# Altium integrated library Passive_comp.IntLib: 10 symbols
Pins are listed as number, name and electrical type; pins without a type are passive.

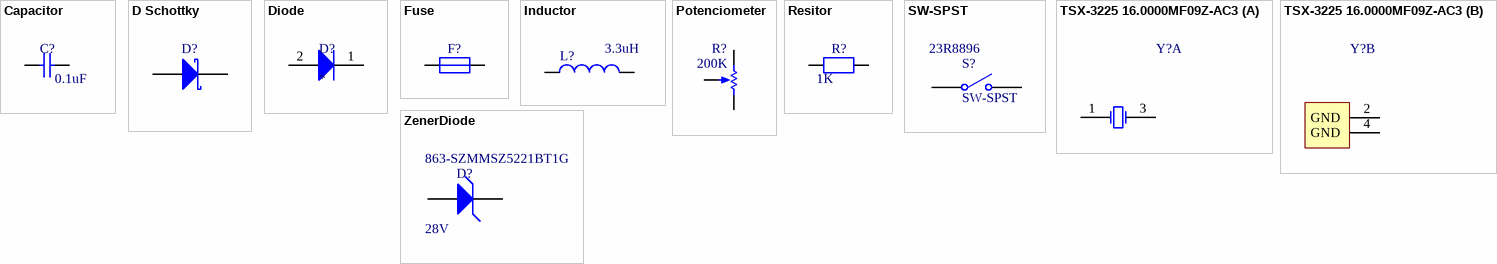
[diagram p0: symbols Capacitor to ZenerDiode]

## Capacitor
designator C?  value 0.1uF  (hidden comment: *)
Max_V: 25V
footprint 0805_CAP (Chip Capacitor, 2-Leads, Body 2,00x1,25mm, IPC Low Density)
footprint 1206_CAP (Chip Capacitor, 2-Leads, Body 3,20x1,60mm, IPC Low Density)
footprint 0603_CAP (Chip Capacitor, 2-Leads, Body 1,60x0,80mm, IPC Low Density)
pins: 1, 2

## D Schottky
designator D?
Schottky Diode; Published: 8-Jun-2000; LatestRevisionDate: 17-Jul-2002; LatestRevisionNote: Re-released for DXP Platform.; PackageReference: SMB; Publisher: Altium Limited; PackageDescription: DO-214-AA/SMB; 2 C-Bend Leads; Body 5.3 x 3.6 mm, inc. leads (LxW); Code_JEDEC: DO-214-AA
simulation model SKYDIODE (Diode)
signal-integrity model D Schottky
footprint SOD123W (Molded Diode, 2-Leads, Body 2,60x1,70mm, IPC Low Density)
pins: 1 K, 2 A

## Diode
designator D?
footprint SOD-123-2 (Molded Diode, 2-Leads, Body 2,75x1,72mm, IPC Medium Density)
footprint SOD128 (Molded Diode, 2-Leads, Body 3,80x2,35mm, IPC Medium Density)
pins: 1 K, 2 A

## Fuse
designator F?  (value not drawn)
footprint 0603_RES (Chip Resistor, 2-Leads, Body 1,57x0,85mm, IPC Medium Density)
footprint 0805_RES (Chip Resistor, 2-Leads, Body 2,00x1,25mm, IPC Low Density)
footprint 1206_RES (Chip Resistor, 2-Leads, Body 3,13x1,55mm, IPC Low Density)
pins: 1, 2

## Inductor
designator L?  value 3.3uH  (hidden comment: Inductor)
footprint ASPI0530 (Precision Wire Wound Inductor, 2-Leads, Body 5,60x5,20mm, IPC Low Density)
pins: 1, 2

## Potenciometer
designator R?  value 200K
footprint EVM1D
footprint TC33X-2
pins: 1 CCW, 2 WIPER, 3 CW

## Resitor
designator R?  value 1K  (hidden comment: *)
footprint 0603_RES (Chip Resistor, 2-Leads, Body 1,57x0,85mm, IPC Medium Density)
footprint 0805_RES (Chip Resistor, 2-Leads, Body 2,00x1,25mm, IPC Low Density)
footprint 1206_RES (Chip Resistor, 2-Leads, Body 3,13x1,55mm, IPC Low Density)
pins: 1, 2

## SW-SPST
designator S?  Supplier Part Number 1: 23R8896
Single-Pole, Single-Throw Switch; Published: 24-Mar-1999; LatestRevisionDate: 17-Jul-2002; LatestRevisionNote: Re-released for DXP Platform.; PackageReference: SPST-2; Publisher: Altium Limited; PackageDescription: Switch; 2 Leads; Supplier 1: Newark
footprint 147873-1 (SPST TE Conectivity push button)
pins: 1 COMMON, 2 NO

## TSX-3225 16.0000MF09Z-AC3
designator Y?
footprint TSX-3225
part A pins: 1 X1, 3 X2
part B pins: 2 GND (power), 4 GND (power)

## ZenerDiode
designator D?  Zener Voltage: 28V  Supplier Part Number 1: 863-SZMMSZ5221BT1G  (hidden comment: ZenerDiode)
Zener Diode; Supplier 1: Mouser
pins: 1 K, 2 A